# EAGLE library part S9KEAZ128AML (library everykey)
Freescale Cortex M0+ MCU with CAN, -40..125 C
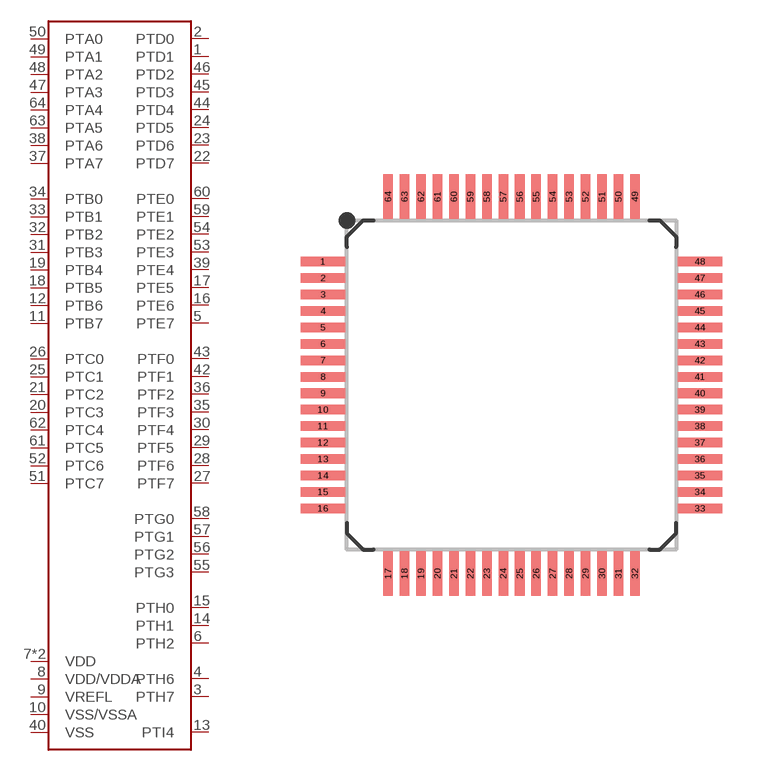
[diagram p68: symbol with the pads of QFP64-0.5; footprint QFP64-0.5]

Designator prefix IC

## S9KEAZ128AMLH  [QFP64-0.5]
1  PTD1
2  PTD0
3  PTH7
4  PTH6
5  PTE7
6  PTH2
7  VDD  pwr
8  VDD/VDDA  pwr
9  VREFL  pwr
10  VSS/VSSA  pwr
11  PTB7
12  PTB6
13  PTI4
14  PTH1
15  PTH0
16  PTE6
17  PTE5
18  PTB5
19  PTB4
20  PTC3
21  PTC2
22  PTD7
23  PTD6
24  PTD5
25  PTC1
26  PTC0
27  PTF7
28  PTF6
29  PTF5
30  PTF4
31  PTB3
32  PTB2
33  PTB1
34  PTB0
35  PTF3
36  PTF2
37  PTA7
38  PTA6
39  PTE4
40  VSS  pwr
41  VDD  pwr
42  PTF1
43  PTF0
44  PTD4
45  PTD3
46  PTD2
47  PTA3
48  PTA2
49  PTA1
50  PTA0
51  PTC7
52  PTC6
53  PTE3
54  PTE2
55  PTG3
56  PTG2
57  PTG1
58  PTG0
59  PTE1
60  PTE0
61  PTC5
62  PTC4
63  PTA5
64  PTA4

## Footprint QFP64-0.5 (pad centres in mm)
smd 1.35 x 0.29: 1 -5.725,3.75; 2 -5.725,3.25; 3 -5.725,2.75; 4 -5.725,2.25; 5 -5.725,1.75; 6 -5.725,1.25; 7 -5.725,0.75; 8 -5.725,0.25; 9 -5.725,-0.25; 10 -5.725,-0.75; 11 -5.725,-1.25; 12 -5.725,-1.75; 13 -5.725,-2.25; 14 -5.725,-2.75; 15 -5.725,-3.25; 16 -5.725,-3.75; 33 5.725,-3.75; 34 5.725,-3.25; 35 5.725,-2.75; 36 5.725,-2.25; 37 5.725,-1.75; 38 5.725,-1.25; 39 5.725,-0.75; 40 5.725,-0.25; 41 5.725,0.25; 42 5.725,0.75; 43 5.725,1.25; 44 5.725,1.75; 45 5.725,2.25; 46 5.725,2.75; 47 5.725,3.25; 48 5.725,3.75
smd 0.29 x 1.35: 17 -3.75,-5.725; 18 -3.25,-5.725; 19 -2.75,-5.725; 20 -2.25,-5.725; 21 -1.75,-5.725; 22 -1.25,-5.725; 23 -0.75,-5.725; 24 -0.25,-5.725; 25 0.25,-5.725; 26 0.75,-5.725; 27 1.25,-5.725; 28 1.75,-5.725; 29 2.25,-5.725; 30 2.75,-5.725; 31 3.25,-5.725; 32 3.75,-5.725; 49 3.75,5.725; 50 3.25,5.725; 51 2.75,5.725; 52 2.25,5.725; 53 1.75,5.725; 54 1.25,5.725; 55 0.75,5.725; 56 0.25,5.725; 57 -0.25,5.725; 58 -0.75,5.725; 59 -1.25,5.725; 60 -1.75,5.725; 61 -2.25,5.725; 62 -2.75,5.725; 63 -3.25,5.725; 64 -3.75,5.725